# Altium schematic symbol library MainComponents.SchLib: 9 symbols
Pins are listed as number, name and electrical type; pins without a type are passive.

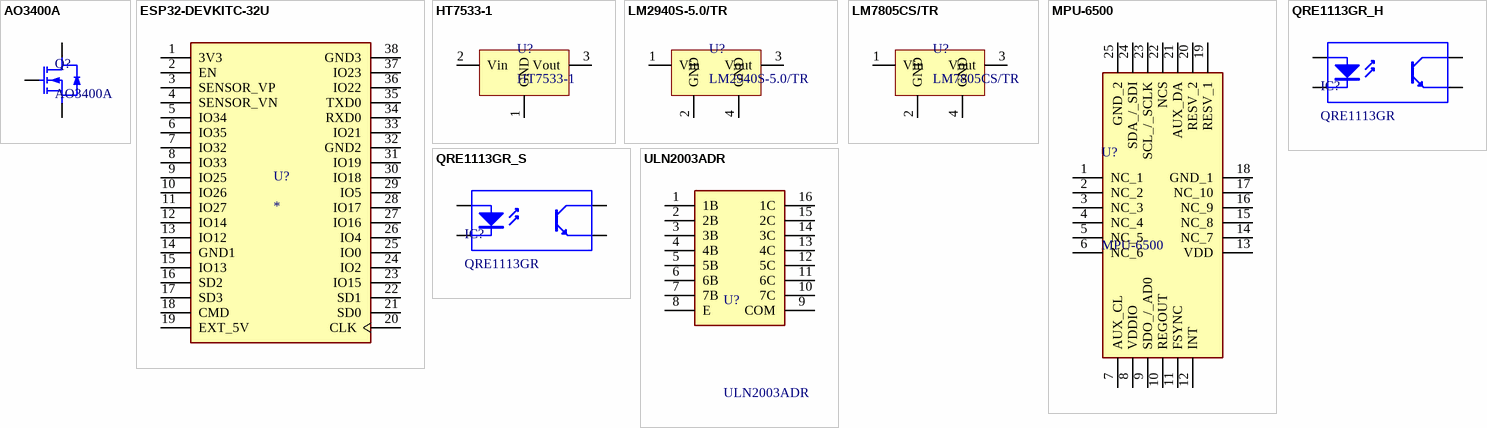
[diagram p0: symbols AO3400A to ULN2003ADR]

## AO3400A
designator Q?
30V 5.7A 26.5mΩ@10V,5.7A 1.4W 1.5V@250uA 1PCSNChannel SOT-23-3L MOSFETs ROHS; Manufacturer: Alpha & Omega Semicon; FET Type: N-Channel; Rds On (Max) @ Id, Vgs: 38 mohm @ 5.7A, 10V; Input Capacitance (Ciss) (Max) @Vds: 630pF; Vgs(th) (Max) Id: 1.5V, Id =250uA; Gate Charge (Qg) (Max) @ Vgs: 7nC @ 4.5V; Vgs (Max): 12 V; Rise / Fall Time (Typ): 2.5 ~ 2.0 (ns); Part Number: AO3400A; Package / Case: SOT-23; Operating Temperature: -55 °C ~150 °C; Drain to Source Voltage (Vds): 30V; Current - Continuous Drain (Id) @25°C: 5.7A; Power Dissipation (Max): 1.4 W; ComponentLink1Description: Datasheet; ComponentLink1URL: https://jlcpcb.com/partdetail/Alpha_OmegaSemicon-AO3400A/C20917; LCSC: C20917
footprint SOT-23 (SOT23, 3-Leads, Body 2.90x2.40mm, Pitch 0.95mm, IPC Medium Density)
pins: D, G, S

## ESP32-DEVKITC-32U
designator U?
ESP32-WROOM-32UE series Transceiver; 802.11 b/g/n (Wi-Fi, WiFi, WLAN), Bluetooth® Smart Ready 4.x Dual Mode Evaluation Board; MF: Espressif Systems; MP: ESP32-DEVKITC-32U; SnapEDA_Link: https://www.snapeda.com/parts/ESP32-DEVKITC-32U/Espressif+Systems/view-part/?ref=snap; Package: CUSTOM-38 ESPRESSIF; Value: *; Check_prices: https://www.snapeda.com/parts/ESP32-DEVKITC-32U/Espressif+Systems/view-part/?ref=eda
footprint MODULE_ESP32-DEVKITC-32U
pins: 1 3V3, 2 EN, 3 SENSOR_VP, 4 SENSOR_VN, 5 IO34, 6 IO35, 7 IO32, 8 IO33, 9 IO25, 10 IO26, 11 IO27, 12 IO14, 13 IO12, 14 GND1, 15 IO13, 16 SD2, 17 SD3, 18 CMD, 19 EXT_5V, 20 CLK, 21 SD0, 22 SD1, 23 IO15, 24 IO2, 25 IO0, 26 IO4, 27 IO16, 28 IO17, 29 IO5, 30 IO18, 31 IO19, 32 GND2, 33 IO21, 34 RXD0, 35 TXD0, 36 IO22, 37 IO23, 38 GND3

## HT7533-1
designator U?
100mA Fixed 3.3V Positive electrode 30V SOT-89-3 Voltage Regulators - Linear, Low Drop Out (LDO) Regulators ROHS; Manufacturer: Holtek Semicon; Max Power Dissipation: 500 mW; Current - Quiescent (Iq): 8mA; Voltage - Dropout (Max): 26.7 V; Part Number: HT7533-1; Package/ Case: SOT-89-3; Operating Temperature: -40~85 ºC; Output Type: Fixed; Voltage - Input (Max): 30 V; Voltage - Output (Min/Fixed): 3.3 V; LCSC: C14289; Current - Output: 100 mA; ComponentLink2Description: Datasheet; ComponentLink2URL: https://www.lcsc.com/datasheet/lcsc_datasheet_2312191111_Holtek-Semicon-HT7533-1_C14289.pdf; ComponentLink3Description: JLCPCB; ComponentLink3URL: https://jlcpcb.com/partdetail/HoltekSemicon-HT75331/C14289
footprint SOT-89-3_L4.5-W2.5-P1.50-LS4.2-BR
pins: 1 GND (power), 2 Vin (power), 3 Vout (power)

## LM2940S-5.0/TR
designator U?
/ 1A 60dB@(120Hz) Fixed 5V Positive electrode 26V TO-263-3L Voltage Regulators - Linear, Low Drop Out (LDO) Regulators ROHS; Manufacturer: HGSEMI; Voltage - Dropout (Max): 21 V; Part Number: LM2940S-5.0/TR; Package/ Case: TO-263-3; Operating Temperature: 0~125 ºC; Output Type: Fixed; Voltage - Input (Max): 26 V; Voltage - Output (Min/Fixed): 5 V; LCSC: C434496; Current - Output: 1 A; ComponentLink2Description: Datasheet; ComponentLink2URL: https://www.lcsc.com/datasheet/lcsc_datasheet_2201242200_HGSEMI-LM2940S-5-0-TR_C434496.pdf; ComponentLink3Description: JLCPCB; ComponentLink3URL: https://jlcpcb.com/partdetail/Hgsemi-LM2940S_5_0TR/C434496
footprint TO-263-3_L8.6-W10.2-P2.54-LS14.4-BR
pins: 1 Vin (power), 2 GND (power), 3 Vout (power), 4 GND (power)

## LM7805CS/TR
designator U?
62dB@(120Hz) 1.5A Fixed 5V Positive electrode 35V TO-263-3 Voltage Regulators - Linear, Low Drop Out (LDO) Regulators ROHS; Manufacturer: HGSEMI; Max Power Dissipation: 15 W; Voltage - Dropout (Max): 30 V; Part Number: LM7805CS/TR; Package/ Case: TO-263-3; Operating Temperature: 0~125 ºC; Output Type: Fixed; Voltage - Input (Max): 35 V; Voltage - Output (Min/Fixed): 5 V; LCSC: C725350; Current - Output: 1.5 A; ComponentLink2Description: Datasheet; ComponentLink2URL: https://www.lcsc.com/datasheet/lcsc_datasheet_2404031724_HGSEMI-LM7805CS-TR_C725350.pdf; ComponentLink3Description: JLCPCB; ComponentLink3URL: https://jlcpcb.com/partdetail/Hgsemi-LM7805CSTR/C725350
footprint TO-263-3_L8.6-W10.2-P2.54-LS14.4-BR
pins: 1 Vin (power), 2 GND (power), 3 Vout (power), 4 GND (power)

## MPU-6500
designator U?
IMUs - Inertial Measurement Units 6-Axis MEMS MotionTracking  Device with DMP; Manufacturer_Name: TDK; Geometry.Height: 0.95mm; LCSC: C50278; Part Number: MPU-6500; ComponentLink1Description: New link; ComponentLink1URL: https://product.tdk.com/system/files/dam/doc/product/sensor/mortion-inertial/imu/data_sheet/mpu-6500-datasheet2.pdf
footprint QFN-24_L3.0-W3.0-H0.9
pins: 1 NC_1, 2 NC_2, 3 NC_3, 4 NC_4, 5 NC_5, 6 NC_6, 7 AUX_CL, 8 VDDIO, 9 SDO_/_AD0, 10 REGOUT, 11 FSYNC, 12 INT, 13 VDD, 14 NC_7, 15 NC_8, 16 NC_9, 17 NC_10, 18 GND_1, 19 RESV_1, 20 RESV_2, 21 AUX_DA, 22 NCS, 23 SCL_/_SCLK, 24 SDA_/_SDI, 25 GND_2

## QRE1113GR_H
designator IC?, comment QRE1113GR
IC IR-SENSOR; Manufacturer: ON Semiconductor; Wavelength: 940nm; If - Forward Current Max: 50mA; Rise Time: 20us; Vf - Forward Voltage: 1.4V; Sensing Distance (máx): 5mm; Vce - Collector/Emitter Voltage Max: 30V; Ic - Collector Current Max: 20mA; Vr - Reverse Voltage: 5V; Pd - Power Dissipation:: 75mW; Library Control - Checked Footprint: Yes; Library Control - Last Project that Used: Follow-Final; Library Control - Person that Checked Footprint: Lucas; Library Control - Person that did the Last Update Footprint: Mateus(Dimas); Supplier 1: Mouser; Part Number: QRE1113GR; Category: Phototransistor; Price: 1=1,150, 10=0,955, 100=0,542 (USD); Package / Case: SMD-4 Gull Wing; Operating Temperature: -25°C ~ 85°C; Supplier Part Number 1: 512-QRE1113GR; If - Forward Curren t(test): 20mA; Library Ref: Phototransistor; Library Control - Checked Schematic: Yes; Library Control - Last Update: 24/04/2021 00:25; Library Control - Person that Checked Schematic: Lucas; Library Control - Person that did the Last Update Schematic: Mateus(Dimas); ComponentLink1Description: Datasheet; ComponentLink1URL: https://br.mouser.com/datasheet/2/308/QRE1113_D-1814544.pdf; ComponentLink2Description: Mouser Link; ComponentLink2URL: https://br.mouser.com/ProductDetail/ON-Semiconductor-Fairchild/QRE1113GR?qs=Qb0BA3xILekkPpSVC5x7uQ%3D%3D
footprint SOIC4- Head (Small Outline IC (SOIC), 1.80 mm pitch; 4 pin, 3.40 mm L X 2.70 mm W X 1.70 mm H body)
pins: 1 A "Anode", 2 K "Cathode", 3 C "Collector", 4 E "Emitter"

## QRE1113GR_S
designator IC?, comment QRE1113GR
IC IR-SENSOR; Manufacturer: ON Semiconductor; Wavelength: 940nm; If - Forward Current Max: 50mA; Rise Time: 20us; Vf - Forward Voltage: 1.4V; Sensing Distance (máx): 5mm; Vce - Collector/Emitter Voltage Max: 30V; Ic - Collector Current Max: 20mA; Vr - Reverse Voltage: 5V; Pd - Power Dissipation:: 75mW; Library Control - Checked Footprint: Yes; Library Control - Last Project that Used: Follow-Final; Library Control - Person that Checked Footprint: Lucas; Library Control - Person that did the Last Update Footprint: Mateus(Dimas); Supplier 1: Mouser; Part Number: QRE1113GR; Category: Phototransistor; Price: 1=1,150, 10=0,955, 100=0,542 (USD); Package / Case: SMD-4 Gull Wing; Operating Temperature: -25°C ~ 85°C; Supplier Part Number 1: 512-QRE1113GR; If - Forward Curren t(test): 20mA; Library Ref: Phototransistor; Library Control - Checked Schematic: Yes; Library Control - Last Update: 24/04/2021 00:25; Library Control - Person that Checked Schematic: Lucas; Library Control - Person that did the Last Update Schematic: Mateus(Dimas); ComponentLink1Description: Datasheet; ComponentLink1URL: https://br.mouser.com/datasheet/2/308/QRE1113_D-1814544.pdf; ComponentLink2Description: Mouser Link; ComponentLink2URL: https://br.mouser.com/ProductDetail/ON-Semiconductor-Fairchild/QRE1113GR?qs=Qb0BA3xILekkPpSVC5x7uQ%3D%3D
footprint SOIC4- SIDE (Small Outline IC (SOIC), 1.80 mm pitch; 4 pin, 3.40 mm L X 2.70 mm W X 1.70 mm H body)
pins: 1 A "Anode", 2 K "Cathode", 3 C "Collector", 4 E "Emitter"

## ULN2003ADR
designator U?
Seven channels 50V 500mA SOIC-16 Darlington Transistor Arrays ROHS; Manufacturer_Name: Texas Instruments; Geometry.Height: 0.95mm; LCSC: C7512; Manufacturer_Part_Number: ULN2003ADR; Package: SOIC-16; ComponentLink1Description: Datasheet Link; ComponentLink1URL: https://product.tdk.com/system/files/dam/doc/product/sensor/mortion-inertial/imu/data_sheet/mpu-6500-datasheet2.pdf
footprint SOIC-16_L9.9-W3.9-P1.27-LS6.0-BL
pins: 1 1B, 2 2B, 3 3B, 4 4B, 5 5B, 6 6B, 7 7B, 8 E, 9 COM, 10 7C, 11 6C, 12 5C, 13 4C, 14 3C, 15 2C, 16 1C